# Altium footprint library 1747981-2.PcbLib: 1 footprints
Each footprint in its own frame and in the unit in brackets; x right, y up, seen from the top. Pads: shape width x height; smd on the part's side, far side on the other; paste and mask are expansions set on the pad; w line width, h text height; cw(c..) or ccw(c..) is an arc to the next point about the centre after c.
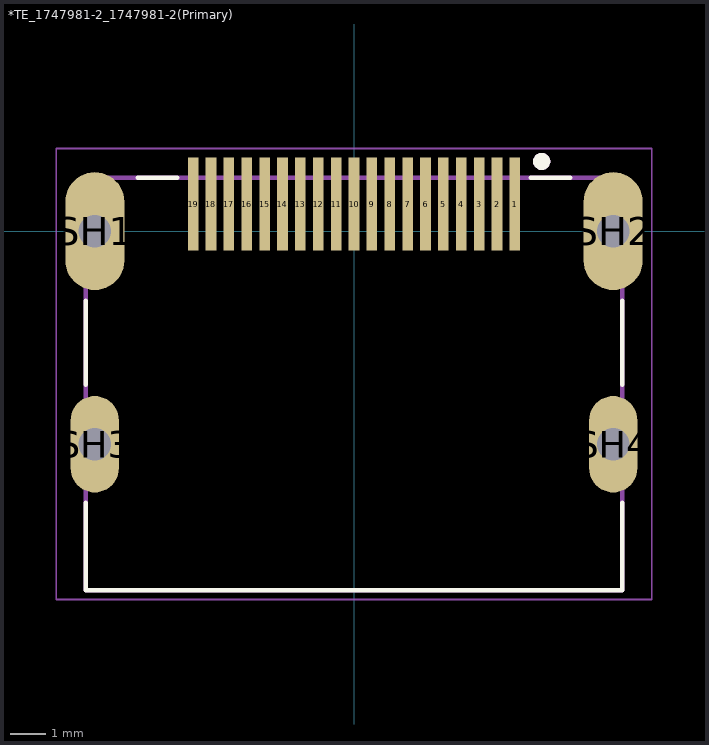
[diagram p0: the footprint, top view; thin cyan lines are the x and y axes]

## *TE_1747981-2_1747981-2(Primary) [mm]
pads (23):
  rect 0.3x2.6 smd: 1(4.5,0.76) 2(4,0.76) 3(3.5,0.76) 4(3,0.76) 5(2.5,0.76) 6(2,0.76) 7(1.5,0.76) 8(1,0.76) 9(0.5,0.76) 10(0,0.76) 11(-0.5,0.76) 12(-1,0.76) 13(-1.5,0.76) 14(-2,0.76) 15(-2.5,0.76) 16(-3,0.76) 17(-3.5,0.76) 18(-4,0.76) 19(-4.5,0.76)
  oval 1.65x3.3 hole 0.9: SH1(-7.25,0) SH2(7.25,0)
  oval 1.35x2.7 hole 0.9: SH3(-7.25,-5.96) SH4(7.25,-5.96)
Top Overlay:
  circle w0.24: c5.25,1.95 r0.12
  lines w0.127: -7.5,-7.6 -7.5,-10.05 7.5,-10.05 7.5,-7.6 ; -7.5,-4.3 -7.5,-1.95 ; -6.05,1.5 -4.95,1.5 ; 4.95,1.5 6.05,1.5 ; 7.5,-4.3 7.5,-1.95
Mechanical 1:
  lines w0: -7.7,-6.56 ccw(c-7.25,-6.56) -7.25,-7.01 ccw(c-7.25,-6.56) -6.8,-6.56 -6.8,-5.36 ccw(c-7.25,-5.36) -7.25,-4.91 ccw(c-7.25,-5.36) -7.7,-5.36 -7.7,-6.56 ; -7.7,-0.9 ccw(c-7.25,-0.9) -7.25,-1.35 ccw(c-7.25,-0.9) -6.8,-0.9 -6.8,0.9 ccw(c-7.25,0.9) -7.25,1.35 ccw(c-7.25,0.9) -7.7,0.9 -7.7,-0.9 ; 6.8,-6.56 ccw(c7.25,-6.56) 7.25,-7.01 ccw(c7.25,-6.56) 7.7,-6.56 7.7,-5.36 ccw(c7.25,-5.36) 7.25,-4.91 ccw(c7.25,-5.36) 6.8,-5.36 6.8,-6.56 ; 6.8,-0.9 ccw(c7.25,-0.9) 7.25,-1.35 ccw(c7.25,-0.9) 7.7,-0.9 7.7,0.9 ccw(c7.25,0.9) 7.25,1.35 ccw(c7.25,0.9) 6.8,0.9 6.8,-0.9
Mechanical 13:
  circle w0.24: c5.25,1.95 r0.12
  circle w0.24: c5.25,1.95 r0.12
  lines w0.127: -7.5,-10.05 -7.5,1.5 ; -7.5,-10.05 7.5,-10.05 ; -7.5,-10.05 -7.5,1.5 ; -7.5,-10.05 7.5,-10.05 ; -7.5,1.5 7.5,1.5 ; -7.5,1.5 7.5,1.5 ; 7.5,-10.05 7.5,1.5 ; 7.5,-10.05 7.5,1.5
Mechanical 15:
  lines w0.05: -8.33,-10.3 -8.33,2.31 8.33,2.31 8.33,-10.3 -8.33,-10.3